# EAGLE library part PINHD-1X8 (library PLL)
PIN HEADER
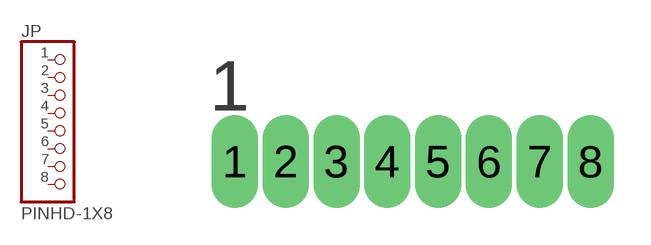
[diagram p0: symbol with the pads of PLL1.27-1X8; footprint PLL1.27-1X8]

Designator prefix JP

## PINHD-1X8  [PLL1.27-1X8]
1  1  pas
2  2  pas
3  3  pas
4  4  pas
5  5  pas
6  6  pas
7  7  pas
8  8  pas

## Footprint PLL1.27-1X8 (pad centres in mm)
drill 0.65 pad 1.016 long: 1 0,0; 2 1.27,0; 3 2.54,0; 4 3.81,0; 5 5.08,0; 6 6.35,0; 7 7.62,0; 8 8.89,0